# EAGLE library part OSRAM_LRTB_G6TG (library seb)
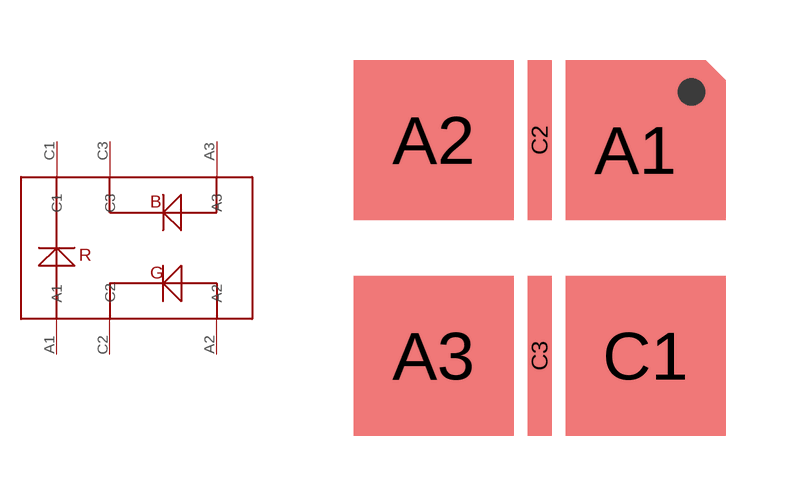
[diagram p6: symbol with the pads of PLCC-6; footprint PLCC-6]

Designator prefix D

## OSRAM_LRTB_G6TG  [PLCC-6]
A1  A1
A2  A2
A3  A3
C1  C1
C2  C2
C3  C3

## Footprint PLCC-6 (pad centres in mm)
smd 3.5 x 3.5: A1 2.4,2.45
smd 4 x 4: A2 -2.65,2.7; A3 -2.65,-2.7; C1 2.65,-2.7
smd 0.6 x 4: C2 0,2.7; C3 0,-2.7